# EAGLE library part SAMACSYS_PARTS_SI7617DN-T1-GE3 (library LiPo Charger)
VISHAY - SI7617DN-T1-GE3 - MOSFET, P CH, 30V, 35A, POWERPAK Source: Datasheet <https://componentsearchengine.com/Datasheets/1/SI7617DN-T1-GE3.pdf>
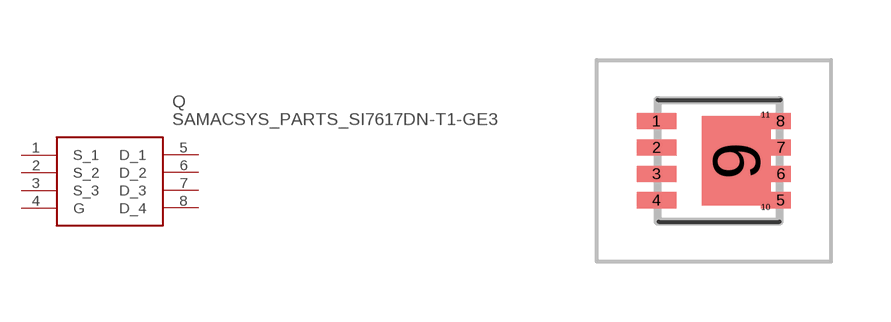
[diagram p1: symbol with the pads of SAMACSYS_PARTS_SIS862DNT1GE3; footprint SAMACSYS_PARTS_SIS862DNT1GE3]

Designator prefix Q

## SAMACSYS_PARTS_SI7617DN-T1-GE3 (DESCRIPTION: VISHAY - SI7617DN-T1-GE3 - MOSFET, P CH, 30V, 35A, POWERPAK; HEIGHT: mm; MANUFACTURER_NAME: Vishay; MANUFACTURER_PART_NUMBER: SI7617DN-T1-GE3; MOUSER_PART_NUMBER: 781-SI7617DN-GE3; MOUSER_PRICE-STOCK: https://www.mouser.com/Search/Refine.aspx?Keyword=781-SI7617DN-GE3)  [SAMACSYS_PARTS_SIS862DNT1GE3]
1  S_1
2  S_2
3  S_3
4  G
5  D_1
6  D_2
7  D_3
8  D_4

## Footprint SAMACSYS_PARTS_SIS862DNT1GE3 (pad centres in mm)
PowerPAK 1212-8 Single_2
smd 0.99 x 0.405: 1 -1.555,0.992; 2 -1.555,0.332; 3 -1.555,-0.328; 4 -1.555,-0.988
smd 0.51 x 0.405: 5 1.555,-0.988; 6 1.555,-0.328; 7 1.555,0.332; 8 1.555,0.992
smd 1.725 x 2.235: 9 0.438,0.002
smd 0.25 x 0.077: 10 1.175,-1.156; 11 1.175,1.156